# EAGLE library part S17P (library con-amp-mt)
AMP MT CONNECTOR
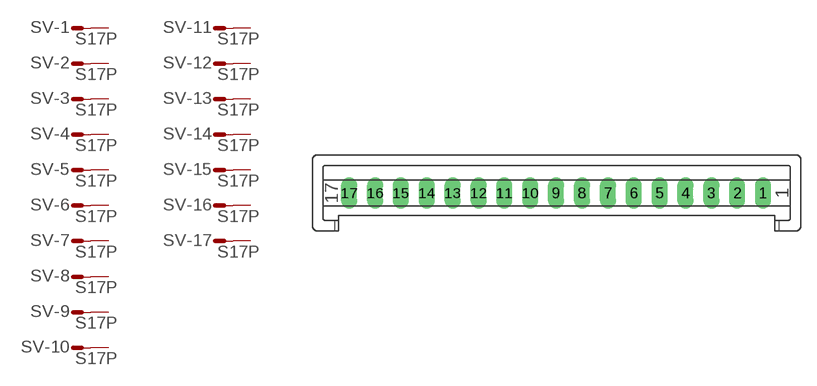
[diagram p26: symbol with the pads of S17P; footprint S17P]

Designator prefix SV; gates -1=M -2=M -3=M -4=M -5=M -6=M -7=M -8=M -9=M -10=M -11=M -12=M -13=M -14=M -15=M -16=M -17=M

## S17P (OC_FARNELL: unknown; OC_NEWARK: unknown)  [S17P]
1  -1:S  pas
2  -2:S  pas
3  -3:S  pas
4  -4:S  pas
5  -5:S  pas
6  -6:S  pas
7  -7:S  pas
8  -8:S  pas
9  -9:S  pas
10  -10:S  pas
11  -11:S  pas
12  -12:S  pas
13  -13:S  pas
14  -14:S  pas
15  -15:S  pas
16  -16:S  pas
17  -17:S  pas

## Footprint S17P (pad centres in mm)
AMP MT CONNECTOR
drill 1.016 long: 1 20,0; 2 17.5,0; 3 15,0; 4 12.5,0; 5 10,0; 6 7.5,0; 7 5,0; 8 2.5,0; 9 0,0; 10 -2.5,0; 11 -5,0; 12 -7.5,0; 13 -10,0; 14 -12.5,0; 15 -15,0; 16 -17.49,0; 17 -20.005,0